# Altium schematic symbol library FILLER_PCB.SchLib: 2 symbols
Pins are listed as number, name and electrical type; pins without a type are passive.

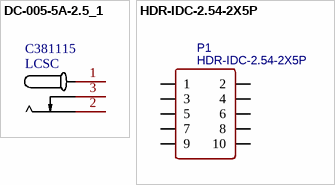
[diagram p0: symbols DC-005-5A-2.5_1 to HDR-IDC-2.54-2X5P]

## DC-005-5A-2.5_1
designator DC?, comment Supplier 1: LCSC  Supplier Part Number 1: C381115  (hidden comment: DC-005-5A-2.5)
DC Power Receptacle 260℃ Brass -20℃~+70℃ 2.5mm 6.5mm 5A 24V Plugin DC Power Connectors ROHS; Manufacturer: XKB Connectivity(中国星坤); Add into BOM: yes; Symbol: DC-005-5A-2.5; Device: DC-005-5A-2.5; LCSC Part Name: DC电源插座 内径:2.5mm 外径:6.5mm; Supplier Part: C381115; Manufacturer Part: DC-005-5A-2.5; Supplier Footprint: 插件; JLCPCB Part Class: Extended Part; Datasheet: https://atta.szlcsc.com/upload/public/pdf/source/20220930/9F6B678D272419D8FE16D336E354A545.pdf; Supplier: LCSC; Convert to PCB: yes; Connector Type: DC Power Receptacle; Inside Contact Diameter: 2.5mm; Outside Contact Diameter: 6.5mm; Current Rating (Max): 5A; Voltage Rating (Max): 24V; Contact Material: Brass; Operating Temperature Range: -20℃~+70℃; Soldering Temperature(Max): 260℃
footprint DC-IN-TH_DC-005-5A-2.5
pins: 1, 2, 3

## HDR-IDC-2.54-2X5P
designator P1
Manufacturer: BOOMELE(博穆精密); Manufacturer Part: 2.54-2*5P简牛; Supplier: LCSC; Supplier Part: C5665; JLCPCB Part Class: Extended Part; spicePre: P; spiceSymbolName: HDR-IDC-2.54-2X5P
footprint HDR-IDC-2.54-2X5P
pins: 1, 2, 3, 4, 5, 6, 7, 8, 9, 10